# Altium integrated library 74 Logic.IntLib: 31 symbols
Pins are listed as number, name and electrical type; pins without a type are passive.

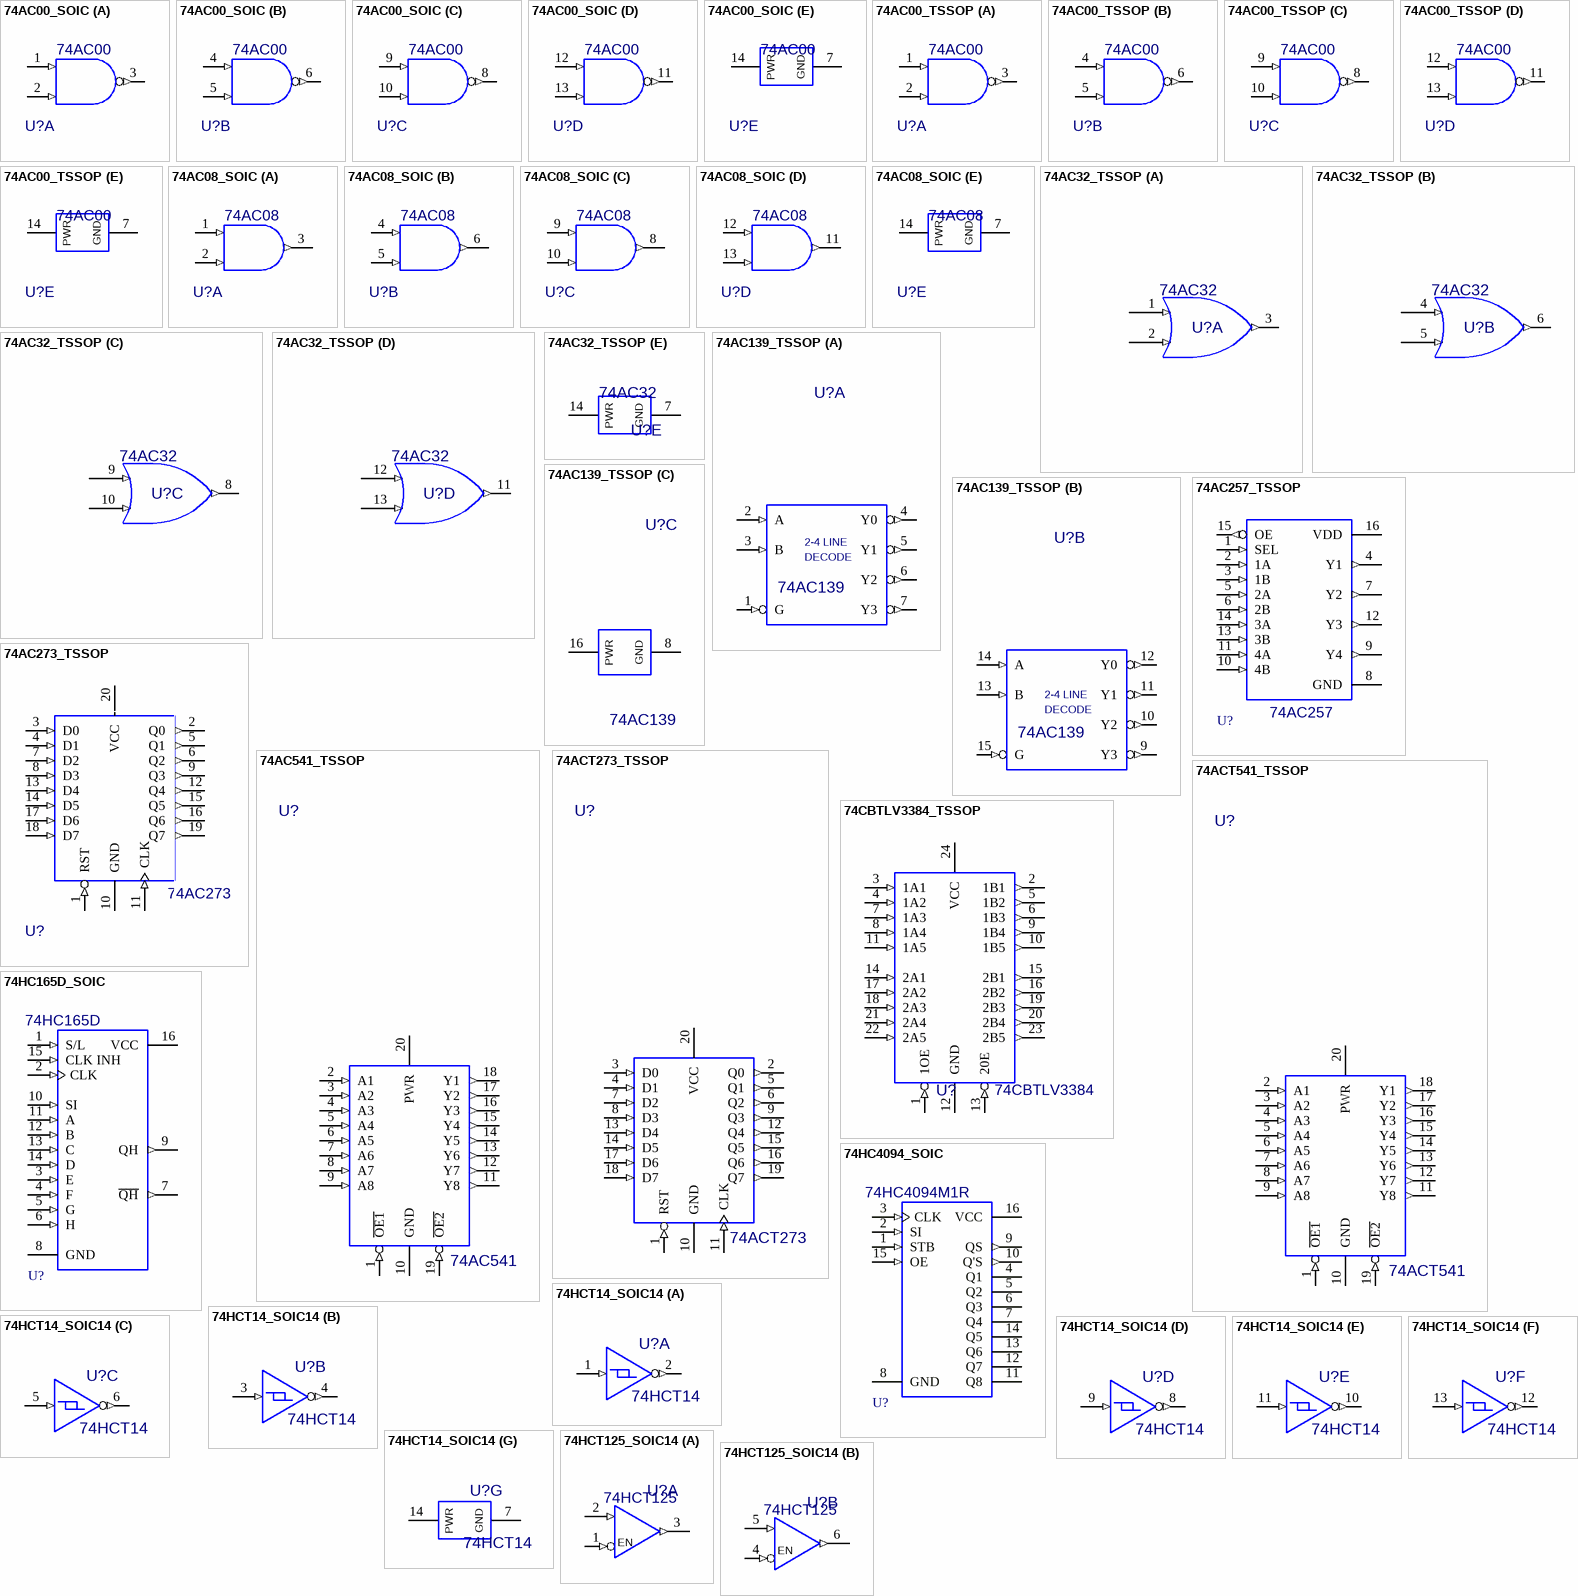
[diagram p0: symbols 74AC00_SOIC to 74HCT125_SOIC14]

## 74AC00_SOIC
designator U?, comment value 74AC00  (hidden comment: 60189-2011)
IC, 74AC00; ECAD_Revision: 1; LIbrarian: US; PartNumber: 60189-2011; HelpURL: K:\ACCELEDA\PDF Spec Files\74\74AC00.pdf
signal-integrity model MC74AC00D
footprint SOIC14
3D model M14A (PCB3D Model)
part A pins: 1 A (in), 2 B (in), 3 ~{Y} (out)
part B pins: 4 A (in), 5 B (in), 6 ~{Y} (out)
part C pins: 8 ~{Y} (out), 9 A (in), 10 B (in)
part D pins: 11 ~{Y} (out), 12 A (in), 13 B (in)
part E pins: 7 GND, 14 PWR (power)

## 74AC00_TSSOP
designator U?, comment value 74AC00  (hidden comment: 60189-0015)
IC, 74AC00; ECAD_Revision: 1; LIbrarian: US; PartNumber: 60189-0015; HelpURL: K:\ACCELEDA\PDF Spec Files\74\74AC00.pdf
signal-integrity model MC74AC00D
footprint TSSOP14
3D model W14B (PCB3D Model)
part A pins: 1 A (in), 2 B (in), 3 ~{Y} (out)
part B pins: 4 A (in), 5 B (in), 6 ~{Y} (out)
part C pins: 8 ~{Y} (out), 9 A (in), 10 B (in)
part D pins: 11 ~{Y} (out), 12 A (in), 13 B (in)
part E pins: 7 GND, 14 PWR (power)

## 74AC08_SOIC
designator U?, comment value 74AC08  (hidden comment: 60189-2045)
IC, 74AC08; ECAD_Revision: 1; LIbrarian: US; PartNumber: 60189-2045; HelpURL: K:\ACCELEDA\PDF Spec Files\74\74AC08.pdf
signal-integrity model MC74AC08D
3D model M14A (PCB3D Model)
footprint SOIC14
part A pins: 1 A (in), 2 B (in), 3 Y (out)
part B pins: 4 A (in), 5 B (in), 6 Y (out)
part C pins: 8 Y (out), 9 A (in), 10 B (in)
part D pins: 11 Y (out), 12 A (in), 13 B (in)
part E pins: 7 GND, 14 PWR (power)

## 74AC32_TSSOP
designator U?, comment value 74AC32  (hidden comment: 48595-2097)
IC, 74AC32; ECAD_Revision: 1; LIbrarian: US; PartNumber: 48595-2097; Item: *; HelpURL: K:\ACCELEDA\PDF Spec Files\74\74AC32.pdf
footprint TSSOP14
part A pins: 1 INA (in), 2 INB (in), 3 OUTY (out)
part B pins: 4 INA (in), 5 INB (in), 6 OUTY (out)
part C pins: 8 OUTY (out), 9 INA (in), 10 INB (in)
part D pins: 11 OUTY (out), 12 INA (in), 13 INB (in)
part E pins: 7 GND, 14 PWR (power)

## 74AC139_TSSOP
designator U?, comment value 74AC139  (hidden comment: 60189-0163)
IC, 74AC139; ECAD_Revision: 1; LIbrarian: US; PartNumber: 60189-0163; Item: *; HelpURL: K:\ACCELEDA\PDF Spec Files\74\74AC139.pdf
footprint TSSOP16
3D model MTC16 (PCB3D Model)
part A pins: 1 G (in), 2 A (in), 3 B (in), 4 Y0 (out), 5 Y1 (out), 6 Y2 (out), 7 Y3 (out)
part B pins: 9 Y3 (out), 10 Y2 (out), 11 Y1 (out), 12 Y0 (out), 13 B (in), 14 A (in), 15 G (in)
part C pins: 8 GND, 16 VCC (power)
part A text: 2-4 LINE; DECODE
part B text: 2-4 LINE; DECODE
part C text: PWR

## 74AC257_TSSOP
designator U?, comment value 74AC257  (hidden comment: AWT25-500083)
IC, 74AC257; ECAD_Revision: 2; LIbrarian: US; HelpURL: K:\ACCELEDA\PDF Spec Files\74\74AC257.pdf; PartNumber: AWT25-500083
3D model MTC16 (PCB3D Model)
signal-integrity model 74AC257MTC
footprint TSSOP16
pins: 1 SEL (in), 2 1A (in), 3 1B (in), 4 Y1 (out), 5 2A (in), 6 2B (in), 7 Y2 (out), 8 GND, 9 Y4 (out), 10 4B (in), 11 4A (in), 12 Y3 (out), 13 3B (in), 14 3A (in), 15 OE (out), 16 VDD (power)

## 74AC273_TSSOP
designator U?, comment value 74AC273  (hidden comment: 60189-0320)
IC, 74AC273; ECAD_Revision: 1; LIbrarian: US; PartNumber: 60189-0320; HelpURL: K:\ACCELEDA\PDF Spec Files\74\74AC273.pdf
3D model MTC20 (Shrink Small Outline; 20 Leads; Body Width 4.4 mm; Pitch 0.65 mm)
signal-integrity model 74AC273MTC
footprint TSSOP20
pins: 1 RST (in), 2 Q0 (out), 3 D0 (in), 4 D1 (in), 5 Q1 (out), 6 Q2 (out), 7 D2 (in), 8 D3 (in), 9 Q3 (out), 10 GND, 11 CLK (in), 12 Q4 (out), 13 D4 (in), 14 D5 (in), 15 Q5 (out), 16 Q6 (out), 17 D6 (in), 18 D7 (in), 19 Q7 (out), 20 VCC (power)

## 74AC541_TSSOP
designator U?, comment value 74AC541  (hidden comment: 60189-0429)
IC, 74AC541; ECAD_Revision: 1; LIbrarian: US; PartNumber: 60189-0429; Item: *; HelpURL: K:\ACCELEDA\PDF Spec Files\74\74AC541.pdf
footprint TSSOP20
3D model MTC20 (PCB3D Model)
pins: 1 ~{OE1} (in), 2 A1 (in), 3 A2 (in), 4 A3 (in), 5 A4 (in), 6 A5 (in), 7 A6 (in), 8 A7 (in), 9 A8 (in), 10 GND, 11 Y8 (out), 12 Y7 (out), 13 Y6 (out), 14 Y5 (out), 15 Y4 (out), 16 Y3 (out), 17 Y2 (out), 18 Y1 (out), 19 ~{OE2} (in), 20 PWR (power)

## 74ACT273_TSSOP
designator U?, comment value 74ACT273  (hidden comment: 60190-0327)
IC, 74ACT273; ECAD_Revision: 1; LIbrarian: US; PartNumber: 60190-0327; Item: *; HelpURL: K:\ACCELEDA\PDF Spec Files\74\74AC273.pdf
footprint TSSOP20
3D model MTC20 (PCB3D Model)
pins: 1 RST (in), 2 Q0 (out), 3 D0 (in), 4 D1 (in), 5 Q1 (out), 6 Q2 (out), 7 D2 (in), 8 D3 (in), 9 Q3 (out), 10 GND, 11 CLK (in), 12 Q4 (out), 13 D4 (in), 14 D5 (in), 15 Q5 (out), 16 Q6 (out), 17 D6 (in), 18 D7 (in), 19 Q7 (out), 20 VCC (power)

## 74ACT541_TSSOP
designator U?, comment value 74ACT541  (hidden comment: 60190-0426)
IC, 74ACT541; ECAD_Revision: 1; LIbrarian: US; PartNumber: 60190-0426; Item: *; HelpURL: K:\ACCELEDA\PDF Spec Files\74\74AC541.pdf
footprint TSSOP20
3D model MTC20 (PCB3D Model)
pins: 1 ~{OE1} (in), 2 A1 (in), 3 A2 (in), 4 A3 (in), 5 A4 (in), 6 A5 (in), 7 A6 (in), 8 A7 (in), 9 A8 (in), 10 GND, 11 Y8 (out), 12 Y7 (out), 13 Y6 (out), 14 Y5 (out), 15 Y4 (out), 16 Y3 (out), 17 Y2 (out), 18 Y1 (out), 19 ~{OE2} (in), 20 PWR (power)

## 74CBTLV3384_TSSOP
designator U?, comment value 74CBTLV3384  (hidden comment: AWT25-500074)
IC, 74CBTLV3384; ECAD_Revision: 1; LIbrarian: US; PartNumber: AWT25-500074; HelpURL: K:\ACCELEDA\PDF Spec Files\74\74CBTLV3384.PDF; Item: *
footprint TSSOP24
3D model MTC24 (PCB3D Model)
signal-integrity model Model Name (Model Description)
pins: 1 1OE (in), 2 1B1 (out), 3 1A1 (in), 4 1A2 (in), 5 1B2 (out), 6 1B3 (out), 7 1A3 (in), 8 1A4 (in), 9 1B4 (out), 10 1B5 (out), 11 1A5 (in), 12 GND, 13 20E (in), 14 2A1 (in), 15 2B1 (out), 16 2B2 (out), 17 2A2 (in), 18 2A3 (in), 19 2B3 (out), 20 2B4 (out), 21 2A4 (in), 22 2A5 (in), 23 2B5 (out), 24 VCC (power)

## 74HC165D_SOIC
designator U?, comment value 74HC165D  (hidden comment: TMP_US_74HC165D)
IC, 74HC165D; ECAD_Revision: 1; LIbrarian: US; HelpURL: K:\ACCELEDA\PDF Spec Files\74\74HC165D.PDF; PartNumber: TMP_US_74HC165D
footprint SOIC16
3D model M16A (PCB3D Model)
signal-integrity model SN74HC165D
pins: 1 S/L (in), 2 CLK (in), 3 E (in), 4 F (in), 5 G (in), 6 H (in), 7 ~{QH} (out), 8 GND (power), 9 QH (out), 10 SI (in), 11 A (in), 12 B (in), 13 C (in), 14 D (in), 15 CLK INH (in), 16 VCC (power)

## 74HC4094_SOIC
designator U?, comment value 74HC4094M1R  (hidden comment: TMP_US_74HC4094)
IC, 74HC4094M1R; ECAD_Revision: 1; LIbrarian: US; HelpURL: K:\ACCELEDA\PDF Spec Files\74\74HC4094.PDF; PartNumber: TMP_US_74HC4094
footprint SOIC16
3D model M16A (PCB3D Model)
signal-integrity model M74HC4094M1R
pins: 1 STB (in), 2 SI (in), 3 CLK (in), 4 Q1 (hiz), 5 Q2 (hiz), 6 Q3 (hiz), 7 Q4 (hiz), 8 GND (power), 9 QS (out), 10 Q'S (out), 11 Q8 (hiz), 12 Q7 (hiz), 13 Q6 (hiz), 14 Q5 (hiz), 15 OE (in), 16 VCC (power)

## 74HCT14_SOIC14
designator U?, comment value 74HCT14  (hidden comment: IXD/PC74HCT14T)
IC, 74HCT14D; ECAD_Revision: 1; LIbrarian: UK; PartNumber: IXD/PC74HCT14T; Item: *
footprint SOIC14
part A pins: 1 IN (in), 2 OUT (out)
part B pins: 3 IN (in), 4 OUT (out)
part C pins: 5 IN (in), 6 OUT (out)
part D pins: 8 OUT (out), 9 IN (in)
part E pins: 10 OUT (out), 11 IN (in)
part F pins: 12 OUT (out), 13 IN (in)
part G pins: 7 GND, 14 PWR (power)

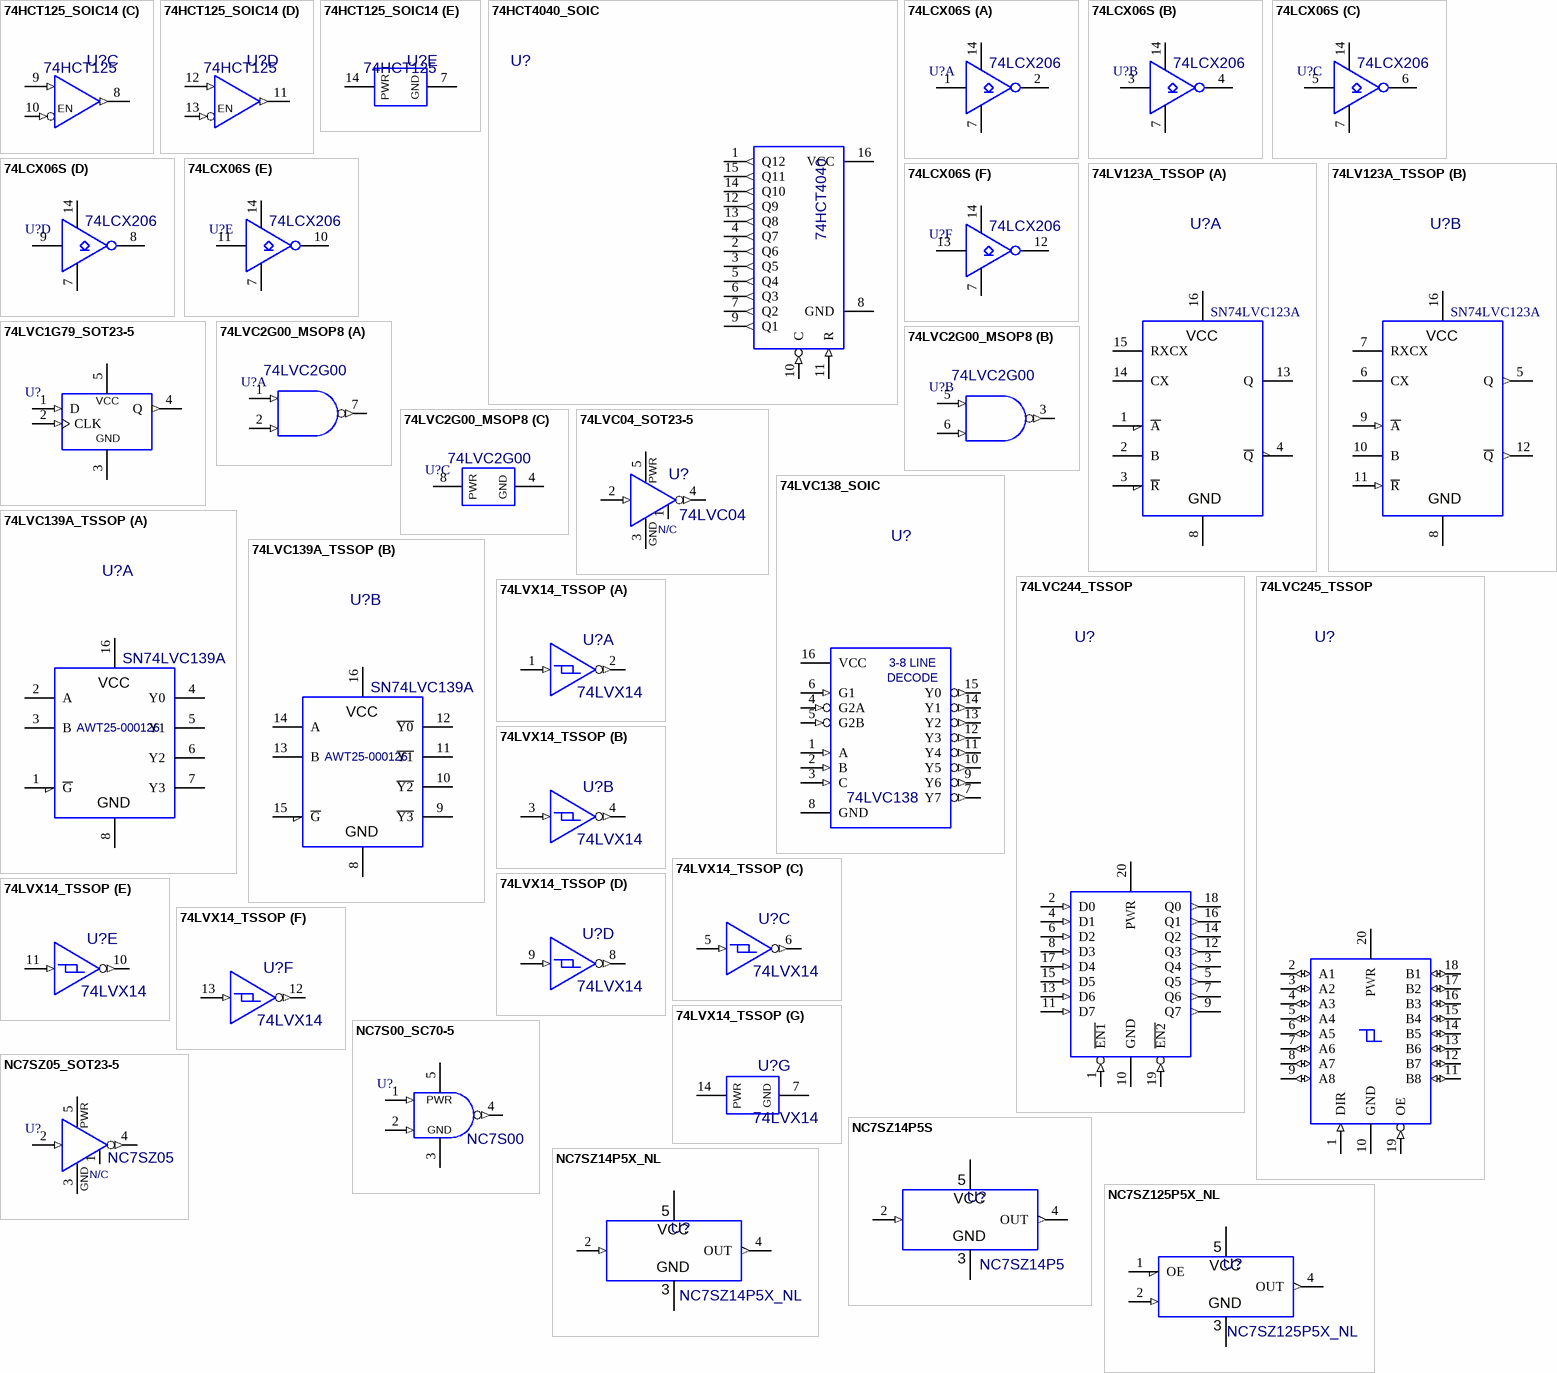
[diagram p1: symbols 74HCT125_SOIC14 to NC7SZ125P5X_NL]

## 74HCT125_SOIC14
designator U?, comment value 74HCT125  (hidden comment: AWT25-000188)
IC, 74HCT125, QUAD TRI-STATE BUFFER; ECAD_Revision: 2; LIbrarian: UK; PartNumber: AWT25-000188; Item: *
footprint SOIC14
part A pins: 1 (in), 2 A (in), 3 Y (out)
part B pins: 4 (in), 5 A (in), 6 Y (out)
part C pins: 8 Y (out), 9 A (in), 10 (in)
part D pins: 11 Y (out), 12 A (in), 13 (in)
part E pins: 7 GND, 14 PWR (power)
part A text: EN
part B text: EN
part C text: EN
part D text: EN

## 74HCT4040_SOIC
designator U?, comment value 74HCT4040  (hidden comment: 60192-2495)
IC, 74HCT4040; ECAD_Revision: 1; LIbrarian: US; PartNumber: 60192-2495; HelpURL: K:\ACCELEDA\PDF Spec Files\74\74HCT4040.PDF; Item: *
footprint SOIC16
3D model M16A (PCB3D Model)
pins: 1 Q12 (out), 2 Q6 (out), 3 Q5 (out), 4 Q7 (out), 5 Q4 (out), 6 Q3 (out), 7 Q2 (out), 8 GND, 9 Q1 (out), 10 C (in), 11 R (in), 12 Q9 (out), 13 Q8 (out), 14 Q10 (out), 15 Q11 (out), 16 VCC (power)

## 74LCX06S
designator U?, comment value 74LCX206  (hidden comment: AWT25-000129)
IC, 74LCX06MTCX_NL, Hex Inverter with Open Drain Outputs; ECAD_Revision: 1; LIbrarian: UK; HelpURL: *; PartNumber: AWT25-000129
footprint TSSOP14
part A pins: 1 A, 2 Y, 7 GND, 14 VCC
part B pins: 3 A, 4 Y, 7 GND, 14 VCC
part C pins: 5 A, 6 Y, 7 GND, 14 VCC
part D pins: 7 GND, 8 Y, 9 A, 14 VCC
part E pins: 7 GND, 10 Y, 11 A, 14 VCC
part F pins: 7 GND, 12 Y, 13 A, 14 VCC

## 74LV123A_TSSOP
designator U?, comment value SN74LVC123A  (hidden comment: AWT25-000127)
IC, 74LVC123APW, Dual Retriggerable Monostable Multivibrator; ECAD_Revision: 1; LIbrarian: UK; Item: *; PartNumber: AWT25-000127
footprint TSSOP16
part A pins: 1 ~{A}, 2 B, 3 ~{R}, 4 ~{Q}, 8 GND, 13 Q, 14 CX, 15 RXCX, 16 VCC
part B pins: 5 Q (out), 6 CX, 7 RXCX, 8 GND, 9 ~{A} (in), 10 B, 11 ~{R} (in), 12 ~{Q} (out), 16 VCC

## 74LVC1G79_SOT23-5
designator U?, comment TMP_US_74LVC1G79  (value not drawn)
IC, 74LVC1G79 Single Gate; ECAD_Revision: 1; LIbrarian: US; HelpURL: K:\ACCELEDA\PDF Spec Files\74\74LVC1G79.PDF; PartNumber: TMP_US_74LVC1G79; Value: 74LVC1G79
footprint SOT23-5
pins: 1 D (in), 2 CLK (in), 3 GND, 4 Q (out), 5 VCC (power)

## 74LVC2G00_MSOP8
designator U?, comment value 74LVC2G00  (hidden comment: AWT25-500037)
IC. 74LVC2G00; ECAD_Revision: 1; LIbrarian: US; HelpURL: K:\ACCELEDA\PDF Spec Files\74\SN74LVC2G00.PDF; PartNumber: AWT25-500037
footprint MSOP8
part A pins: 1 A (in), 2 B (in), 7 ~{Y} (out)
part B pins: 3 ~{Y} (out), 5 A (in), 6 B (in)
part C pins: 4 GND, 8 PWR (power)

## 74LVC04_SOT23-5
designator U?, comment value 74LVC04  (hidden comment: 60193-5034)
IC, 74LVC04; ECAD_Revision: 1; LIbrarian: US; PartNumber: 60193-5034; HelpURL: K:\ACCELEDA\PDF Spec Files\74\sn74lvc1g04.pdf; Item: *
footprint SOT23-5
pins: 1 N/C, 2 A (in), 3 GND, 4 Y (out), 5 PWR (power)

## 74LVC138_SOIC
designator U?, comment value 74LVC138  (hidden comment: 60193-0167)
IC, 74LVC138; ECAD_Revision: 1; LIbrarian: US; PartNumber: 60193-0167; Item: *; HelpURL: K:\ACCELEDA\PDF Spec Files\74\74LCX138.pdf
footprint SOIC16
3D model M16A (PCB3D Model)
pins: 1 A (in), 2 B (in), 3 C (in), 4 G2A (in), 5 G2B (in), 6 G1 (in), 7 Y7 (out), 8 GND, 9 Y6 (out), 10 Y5 (out), 11 Y4 (out), 12 Y3 (out), 13 Y2 (out), 14 Y1 (out), 15 Y0 (out), 16 VCC (power)
text: 3-8 LINE; DECODE

## 74LVC139A_TSSOP
designator U?, comment AWT25-000126  value SN74LVC139A
IC, SN74LVC139A, Dual 2 to 4 line decoder; ECAD_Revision: 2; LIbrarian: UK; Item: *; PartNumber: AWT25-000126; Power Rating: *; Tolerance: *
footprint TSSOP16
3D model MTC16 (PCB3D Model)
footprint Model Name (Model Description)
part A pins: 1 ~{G}, 2 A, 3 B, 4 Y0, 5 Y1, 6 Y2, 7 Y3, 8 GND, 16 VCC
part B pins: 8 GND, 9 ~{Y3}, 10 ~{Y2}, 11 ~{Y1}, 12 ~{Y0}, 13 B, 14 A, 15 ~{G}, 16 VCC

## 74LVC244_TSSOP
designator U?, comment AWT25-500073  (value not drawn)
IC, 74LVC244; ECAD_Revision: 1; LIbrarian: US; Value: (Value); PartNumber: AWT25-500073; Item: *; HelpURL: K:\ACCELEDA\PDF Spec Files\74\sn74lvc244a.pdf
footprint TSSOP20
pins: 1 ~{EN1} (in), 2 D0 (in), 3 Q4 (out), 4 D1 (in), 5 Q5 (out), 6 D2 (in), 7 Q6 (out), 8 D3 (in), 9 Q7 (out), 10 GND, 11 D7 (in), 12 Q3 (out), 13 D6 (in), 14 Q2 (out), 15 D5 (in), 16 Q1 (out), 17 D4 (in), 18 Q0 (out), 19 ~{EN2} (in), 20 PWR (power)

## 74LVC245_TSSOP
designator U?, comment AWT25-500075  (value not drawn)
IC, 74LVC245; ECAD_Revision: 2; LIbrarian: US; PartNumber: AWT25-500075; Item: *; HelpURL: K:\ACCELEDA\PDF Spec Files\74\74LVC245.PDF; Value: 74LVC245
footprint TSSOP20
3D model MTC20 (PCB3D Model)
signal-integrity model Model Name (Model Description)
pins: 1 DIR (in), 2 A1 (io), 3 A2 (io), 4 A3 (io), 5 A4 (io), 6 A5 (io), 7 A6 (io), 8 A7 (io), 9 A8 (io), 10 GND, 11 B8 (io), 12 B7 (io), 13 B6 (io), 14 B5 (io), 15 B4 (io), 16 B3 (io), 17 B2 (io), 18 B1 (io), 19 OE (in), 20 PWR (power)

## 74LVX14_TSSOP
designator U?, comment value 74LVX14  (hidden comment: 60191-0078)
IC, 74LVX14; ECAD_Revision: 1; LIbrarian: US; PartNumber: 60191-0078; Item: *; HelpURL: K:\ACCELEDA\PDF Spec Files\74\74LVX14.pdf
footprint TSSOP14
3D model W14B (PCB3D Model)
part A pins: 1 IN (in), 2 OUT (out)
part B pins: 3 IN (in), 4 OUT (out)
part C pins: 5 IN (in), 6 OUT (out)
part D pins: 8 OUT (out), 9 IN (in)
part E pins: 10 OUT (out), 11 IN (in)
part F pins: 12 OUT (out), 13 IN (in)
part G pins: 7 GND, 14 PWR (power)

## NC7S00_SC70-5
designator U?, comment value NC7S00  (hidden comment: AWT25-500079)
IC, NC7S00 Single gate; ECAD_Revision: 3; LIbrarian: US; HelpURL: K:\ACCELEDA\PDF Spec Files\74\nc7s00.pdf; PartNumber: AWT25-500079
footprint SC70-5
pins: 1 A (in), 2 B (in), 3 GND, 4 ~{Y} (out), 5 PWR (power)

## NC7SZ05_SOT23-5
designator U?, comment value NC7SZ05  (hidden comment: AWT25-500055)
IC, NC7SZ05 Single gate; ECAD_Revision: 3; LIbrarian: US; HelpURL: K:\ACCELEDA\PDF Spec Files\74\nc7sz05.pdf; PartNumber: AWT25-500055
footprint SOT23-5
pins: 1 N/C, 2 A (in), 3 GND, 4 Y (out), 5 PWR (power)

## NC7SZ14P5S
designator U?, comment value NC7SZ14P5  (hidden comment: IXD/NC7SZ14P5)
IC, NC7SZ14P5; ECAD_Revision: 5; Librarian: UK; Power Rating: 0W15; PartNumber: IXD/NC7SZ14P5; Item: *; Tolerance: *; HelpURL: *
footprint SC70-5
pins: 2 (in), 3 GND (power), 4 OUT (out), 5 VCC (power)

## NC7SZ14P5X_NL
designator U?, comment value NC7SZ14P5X_NL  (hidden comment: AWT25-000186)
IC, NC7SZ14P5X_NL; ECAD_Revision: 1; Librarian: UK; Power Rating: 0W15; PartNumber: AWT25-000186; Item: *; Tolerance: *; HelpURL: *
footprint SC70-5
pins: 2 (in), 3 GND, 4 OUT (out), 5 VCC

## NC7SZ125P5X_NL
designator U?, comment value NC7SZ125P5X_NL  (hidden comment: AWT25-000187)
IC, NC7SZ125P5X_NL; ECAD_Revision: 1; Librarian: UK; Power Rating: 0W15; PartNumber: AWT25-000187; Item: *; Tolerance: *; HelpURL: *
footprint SC70-5
pins: 1 OE, 2 (in), 3 GND, 4 OUT (out), 5 VCC